# Altium schematic symbol library printkroonsteen2polig.SchLib: 1 symbol
Pins are listed as number, name and electrical type; pins without a type are passive.

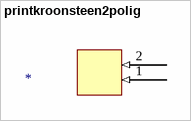
[diagram p0: symbol printkroonsteen2polig]

## printkroonsteen2polig
designator ?
footprint PRINTKROONSTEEN2POLIG
pins: 1 (in), 2 (in)